# EAGLE library part BTS500101TADATMA2 (library BTS500101TADATMA2)
Power Switch ICs - Power Distribution MULTICHIP PROFET & GD Source: Datasheet <https://www.infineon.com/assets/row/public/packages/202/footprint_download/infineon-pg-to263-7-10-fpd-pdf-footprint-en.pdf>
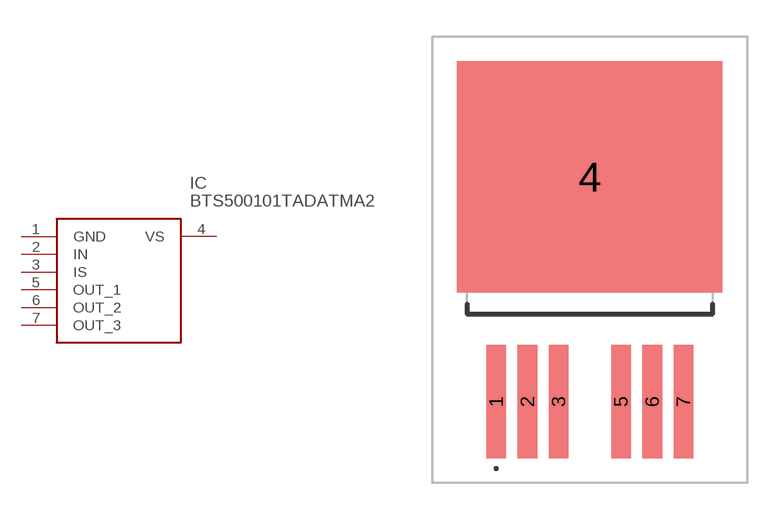
[diagram p0: symbol with the pads of BTS500101TADATMA2; footprint BTS500101TADATMA2]

Designator prefix IC

## BTS500101TADATMA2 (Description: Power Switch ICs - Power Distribution MULTICHIP PROFET & GD; Height: 4.5mm; Manufacturer_Name: Infineon; Manufacturer_Part_Number: BTS500101TADATMA2; Mouser_Part_Number: 726-BTS500101TADATM2; Mouser_Price-Stock: https://www.mouser.co.uk/ProductDetail/Infineon-Technologies/BTS500101TADATMA2?qs=l7cgNqFNU1huaQviZWv9NQ%3D%3D)  [BTS500101TADATMA2]
1  GND
2  IN
3  IS
4  VS
5  OUT_1
6  OUT_2
7  OUT_3

## Footprint BTS500101TADATMA2 (pad centres in mm)
PG‑TO263‑7-10
smd 0.8 x 4.6: 1 -3.81,-6.425; 2 -2.54,-6.425; 3 -1.27,-6.425; 5 1.27,-6.425; 6 2.54,-6.425; 7 3.81,-6.425
smd 10.8 x 9.4: 4 0,2.725